# Altium footprint library ECX-53B.PcbLib: 1 footprints
Each footprint in its own frame and in the unit in brackets; x right, y up, seen from the top. Pads: shape width x height; smd on the part's side, far side on the other; paste and mask are expansions set on the pad; w line width, h text height; cw(c..) or ccw(c..) is an arc to the next point about the centre after c.
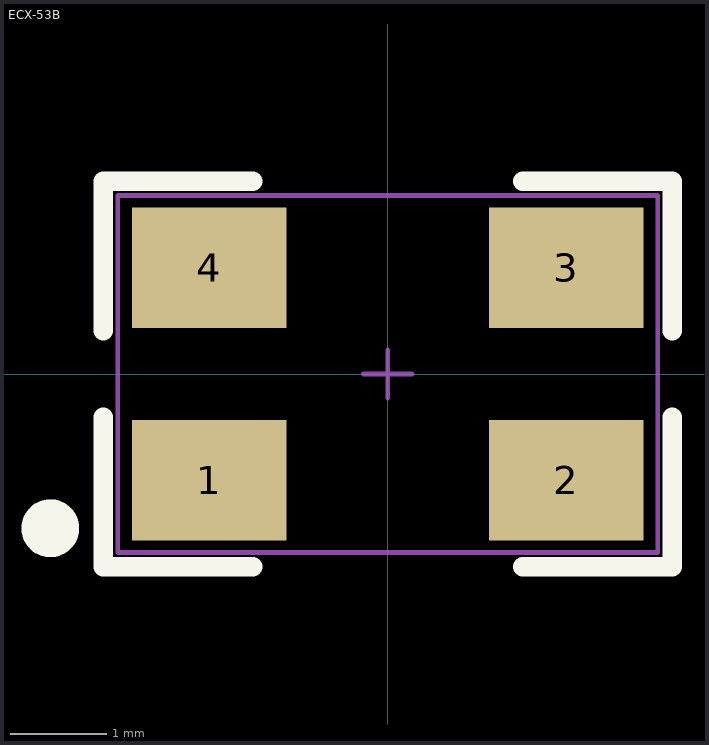
[diagram p0: the footprint, top view; thin cyan lines are the x and y axes]

## ECX-53B [mm] "ECS Inc. Crystal ECX-53B Series"
pads (4):
  rect 1.6x1.25 smd mask+0.05: 1(-1.85,-1.1) 2(1.85,-1.1) 3(1.85,1.1) 4(-1.85,1.1)
Top Overlay:
  circle w0.3: c-3.5,-1.6 r0.15
  lines w0.2: -2.95,-0.45 -2.95,-2 -1.4,-2 ; -2.95,0.45 -2.95,2 -1.4,2 ; 1.4,-2 2.95,-2 2.95,-0.45 ; 1.4,2 2.95,2 2.95,0.45
Mechanical 15 (Mech15):
  lines w0.05: -0.25,0 0.25,0 ; 0,-0.25 0,0.25 ; -2.8,-1.85 -2.8,1.85 2.8,1.85 2.8,-1.85 -2.8,-1.85
3D body: height 0.85, standoff 0, extent -2.5,-1.6 2.5,1.6